# Altium footprint library descret_pcb.PcbLib: 152 footprints (part 3 of 10)
Each footprint in its own frame and in the unit in brackets; x right, y up, seen from the top. Pads: shape width x height; smd on the part's side, far side on the other; paste and mask are expansions set on the pad; w line width, h text height; cw(c..) or ccw(c..) is an arc to the next point about the centre after c.
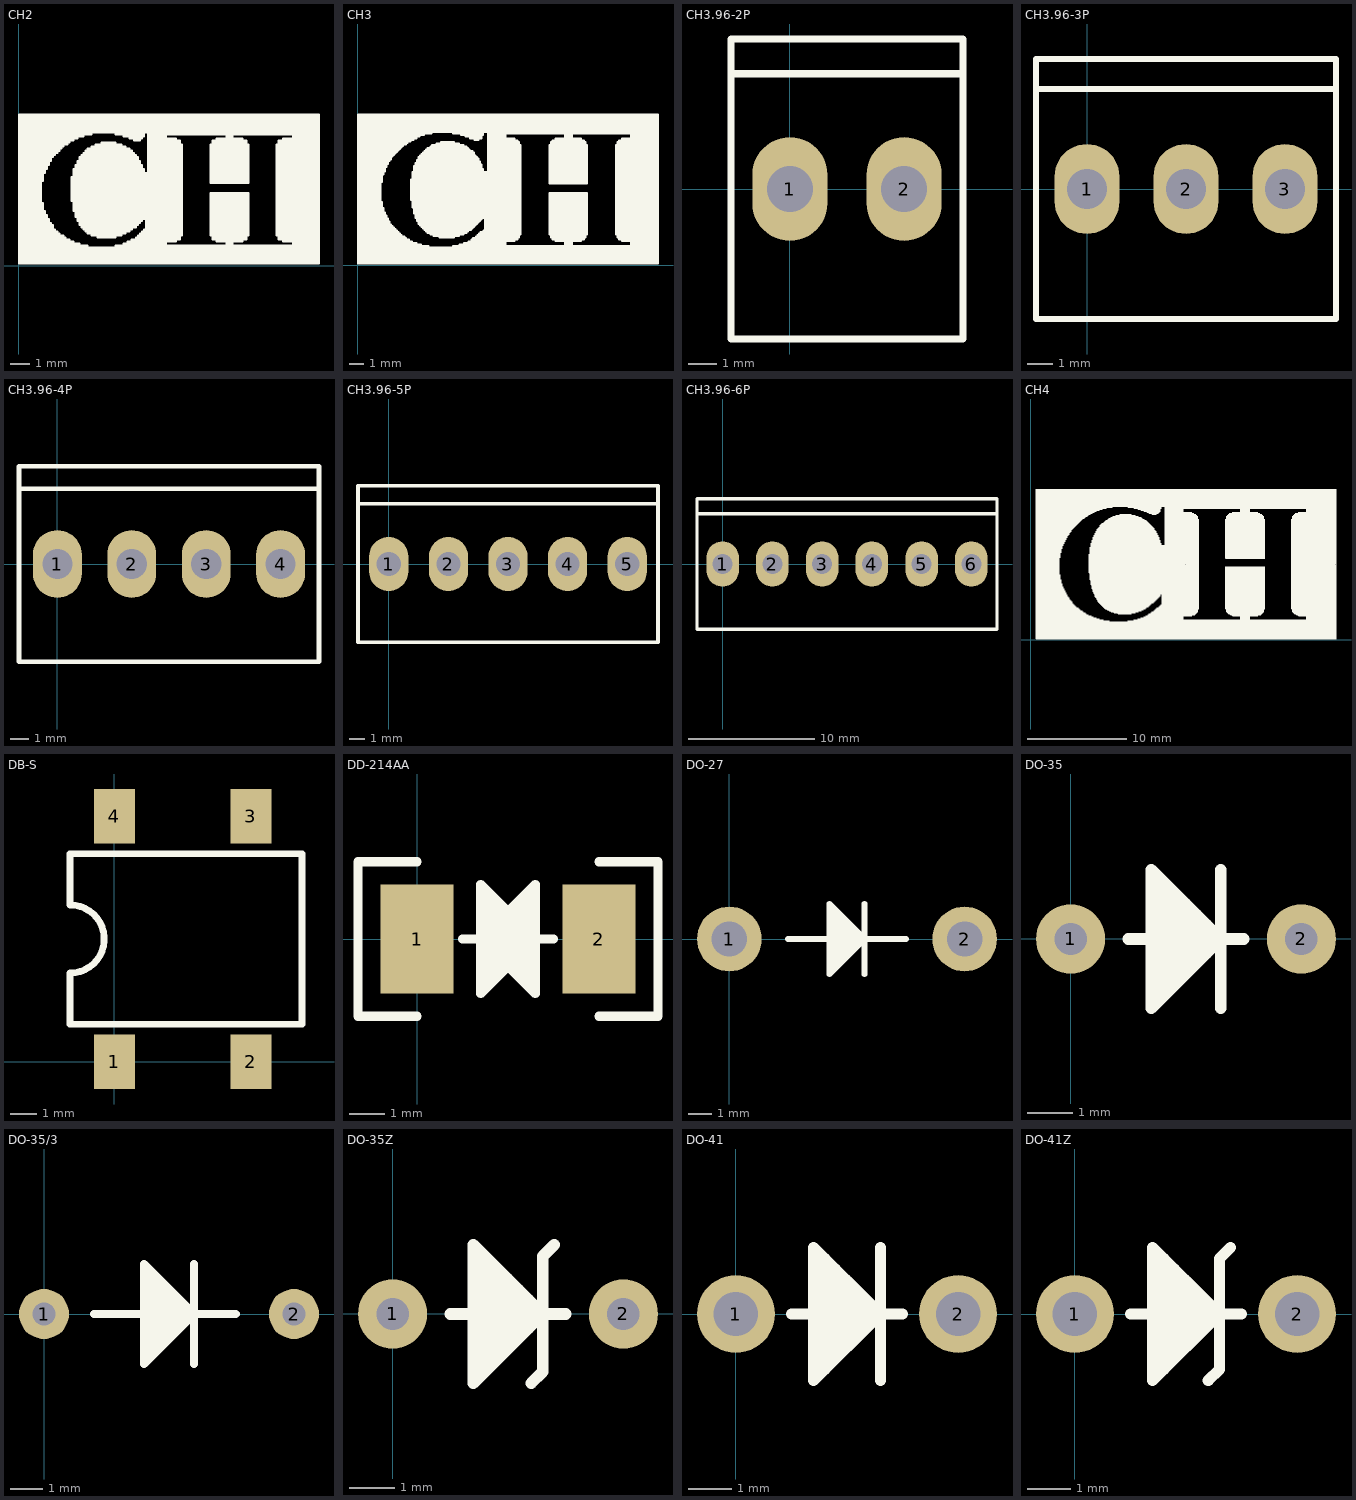
[diagram p2: the footprints below, top view; thin cyan lines are the x and y axes]

## CH2 [mil]
TopOverlay:
  drawing of 612 lines, arcs and shapes, not listed

## CH3 [mil]
TopOverlay:
  drawing of 815 lines, arcs and shapes, not listed

## CH3.96-2P [mm]
pads (2):
  oval 2.6x3.6 hole 1.6: 1(0,0) 2(3.96,0)
TopOverlay:
  lines w0.254: -2.04,4 6,4 ; -2.04,-5.2 -2.04,5.2 6,5.2 6,-5.2 -2.04,-5.2

## CH3.96-3P [mm]
pads (3):
  oval 2.6x3.6 hole 1.6: 1(0,0) 2(3.96,0) 3(7.92,0)
TopOverlay:
  lines w0.254: -2.04,4 9.96,4 ; -2.04,-5.2 9.96,-5.2 9.96,5.2 -2.04,5.2 -2.04,-5.2

## CH3.96-4P [mm]
pads (4):
  oval 2.6x3.6 hole 1.6: 1(0,0) 2(3.96,0) 3(7.92,0) 4(11.88,0)
TopOverlay:
  lines w0.254: -2.04,4 13.92,4 ; -2.04,-5.2 -2.04,5.2 13.92,5.2 13.92,-5.2 -2.04,-5.2

## CH3.96-5P [mm]
pads (5):
  oval 2.6x3.6 hole 1.6: 1(0,0) 2(3.96,0) 3(7.92,0) 4(11.88,0) 5(15.84,0)
TopOverlay:
  lines w0.254: -2.04,4 17.88,4 ; -2.04,-5.2 -2.04,5.2 17.88,5.2 17.88,-5.2 -2.04,-5.2

## CH3.96-6P [mm]
pads (6):
  oval 2.6x3.6 hole 1.6: 1(0,0) 2(3.96,0) 3(7.92,0) 4(11.88,0) 5(15.84,0) 6(19.8,0)
TopOverlay:
  lines w0.254: -2.04,4 21.84,4 ; -2.04,-5.2 -2.04,5.2 21.84,5.2 21.84,-5.2 -2.04,-5.2

## CH4 [mil]
TopOverlay:
  drawing of 1226 lines, arcs and shapes, not listed

## DB-S [mil]
pads (4):
  rect 60x80 smd: 1(0,0) 2(200,0) 3(200,360) 4(0,360)
TopOverlay:
  lines w10: -65,55 275,55 275,305 -65,305 -65,230 cw(c-65,180) -65,130 -65,55

## DD-214AA [mil]
pads (2):
  rect 80x120 smd: 1(0,0) 2(200,0)
TopOverlay:
  lines w10: 0,-85 -65,-85 -65,85 0,85 ; 50,0 150,0 ; 80,-50 80,50 ; 90,-40 90,40 ; 110,-40 110,40 ; 120,-50 120,50 ; 200,-85 265,-85 265,85 200,85 ; 100,-30 70,-60 70,60 100,30 ; 100,-30 130,-60 130,60 100,30 ; 100,-30 100,30

## DO-27 [mil]
pads (2):
  round 110 hole 60: 1(0,0) 2(400,0)
TopOverlay:
  lines w10: 100,0 300,0 ; 180,-50 180,50 ; 189.56,-39.56 189.56,40.44 ; 199.2,-29.2 199.2,30.8 ; 208.71,-18.71 208.71,21.29 ; 217.84,-12.16 217.84,12.16 ; 230,-60 230,60 ; 170,-60 230,0 170,60 170,-60

## DO-35 [mil]
pads (2):
  round 60 hole 28: 1(0,0) 2(200,0)
TopOverlay:
  lines w10: 50,0 150,0 ; 80,-50 80,50 ; 89.56,-39.56 89.56,40.44 ; 99.2,-29.2 99.2,30.8 ; 108.71,-18.71 108.71,21.29 ; 117.84,-12.16 117.84,12.16 ; 130,-60 130,60 ; 70,-60 130,0 70,60 70,-60

## DO-35/3 [mil]
pads (2):
  round 60 hole 28: 1(0,0) 2(300,0)
TopOverlay:
  lines w10: 60,0 230,0 ; 130,-50 130,50 ; 139.56,-39.56 139.56,40.44 ; 149.2,-29.2 149.2,30.8 ; 158.71,-18.71 158.71,21.29 ; 167.84,-12.16 167.84,12.16 ; 180,-60 180,60 ; 120,-60 180,0 120,60 120,-60

## DO-35Z [mil]
pads (2):
  round 60 hole 28: 1(0,0) 2(200,0)
TopOverlay:
  lines w10: 50,0 150,0 ; 80,-50 80,50 ; 89.56,-39.56 89.56,40.44 ; 99.2,-29.2 99.2,30.8 ; 108.71,-18.71 108.71,21.29 ; 117.84,-12.16 117.84,12.16 ; 120,-60 130,-50 130,50 140,60 ; 70,-60 130,0 70,60 70,-60

## DO-41 [mil]
pads (2):
  round 70 hole 40: 1(0,0) 2(200,0)
TopOverlay:
  lines w10: 50,0 150,0 ; 80,-50 80,50 ; 89.56,-39.56 89.56,40.44 ; 99.2,-29.2 99.2,30.8 ; 108.71,-18.71 108.71,21.29 ; 117.84,-12.16 117.84,12.16 ; 130,-60 130,60 ; 70,-60 130,0 70,60 70,-60

## DO-41Z [mil]
pads (2):
  round 70 hole 40: 1(0,0) 2(200,0)
TopOverlay:
  lines w10: 50,0 150,0 ; 80,-50 80,50 ; 89.56,-39.56 89.56,40.44 ; 99.2,-29.2 99.2,30.8 ; 108.71,-18.71 108.71,21.29 ; 117.84,-12.16 117.84,12.16 ; 120,-60 130,-50 130,50 140,60 ; 70,-60 70,60 130,0 70,-60